# Altium footprint library PcbLib1.PcbLib: 53 footprints (part 2 of 4)
Each footprint in its own frame and in the unit in brackets; x right, y up, seen from the top. Pads: shape width x height; smd on the part's side, far side on the other; paste and mask are expansions set on the pad; w line width, h text height; cw(c..) or ccw(c..) is an arc to the next point about the centre after c.
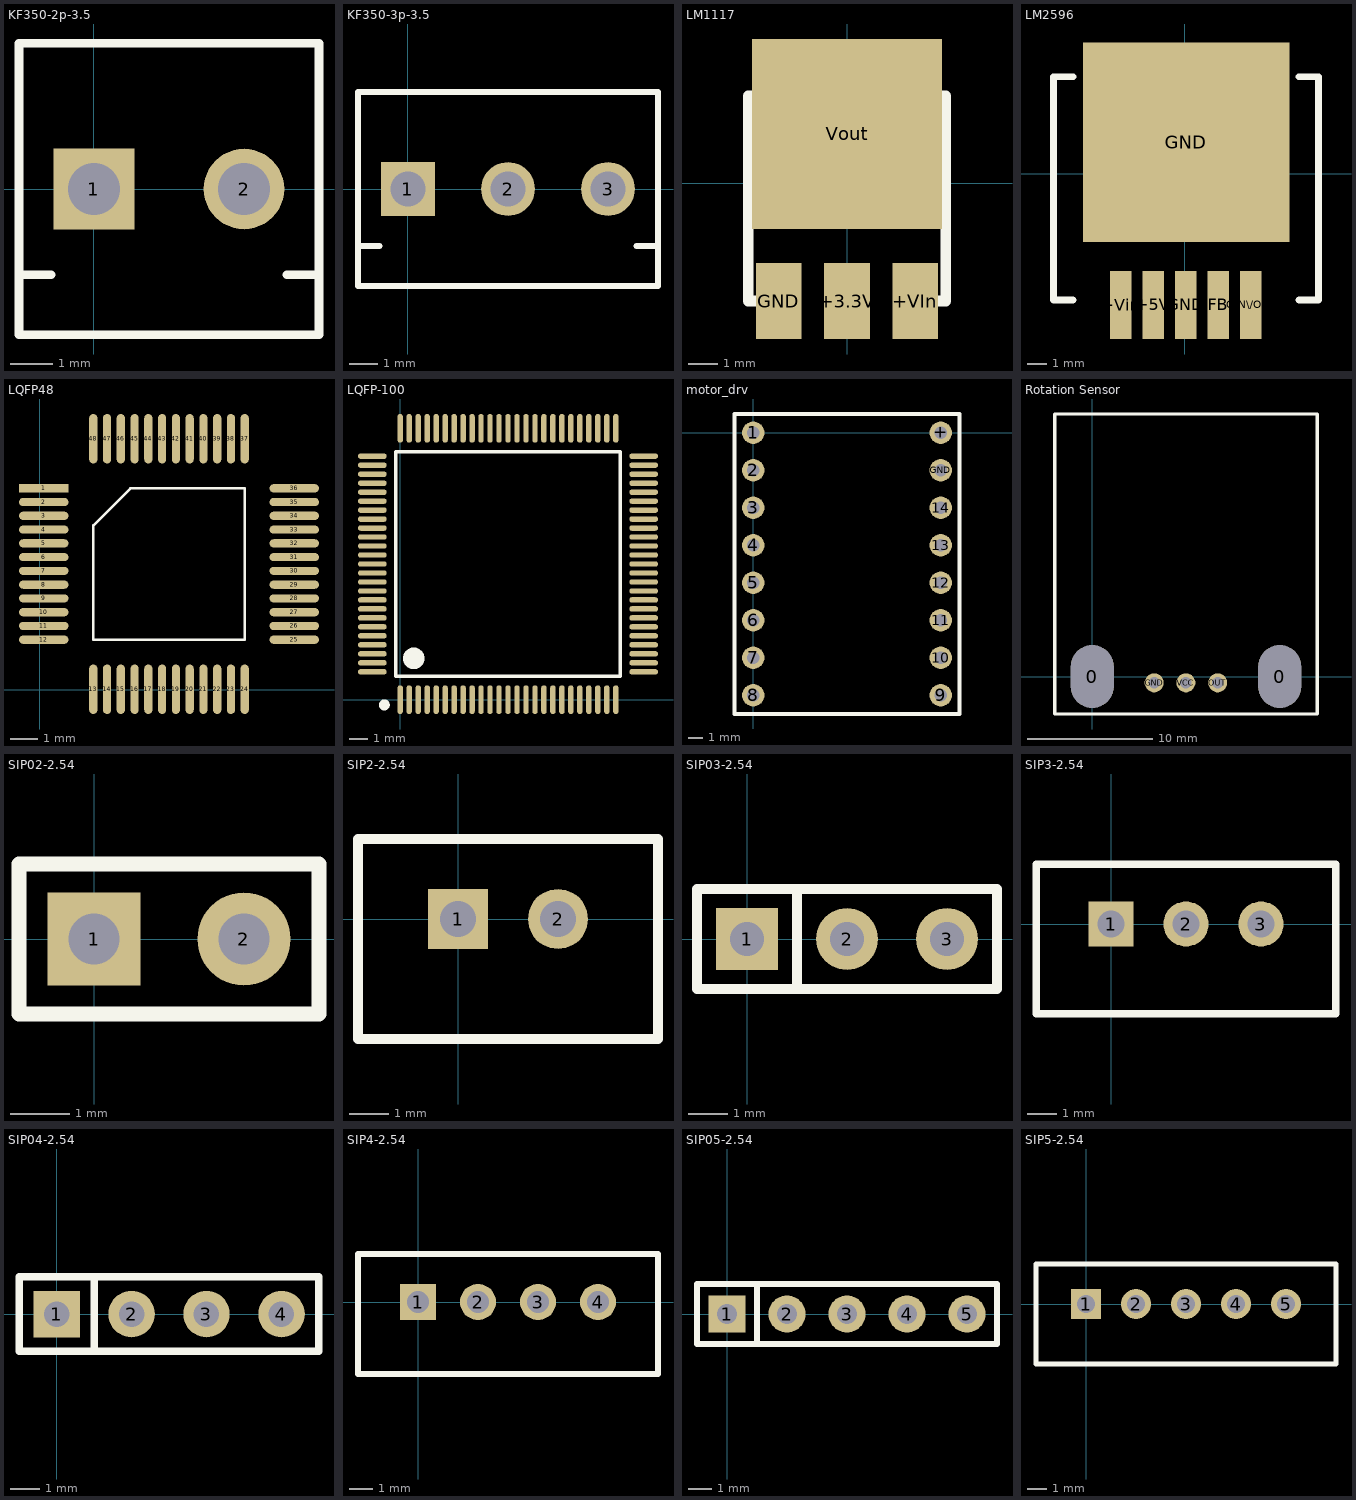
[diagram p1: the footprints below, top view; thin cyan lines are the x and y axes]

## KF350-2p-3.5 [mil]
pads (2):
  rect 74x74 hole 48: 1(0,0)
  round 74 hole 48: 2(137.8,0)
Top Overlay:
  lines w8: -68.9,-78.74 -39.37,-78.74 ; 177.17,-78.74 206.69,-78.74 ; -68.9,-133.86 -68.9,133.86 206.69,133.86 206.69,-133.86 -68.9,-133.86

## KF350-3p-3.5 [mil]
pads (3):
  rect 74x74 hole 48: 1(0,0)
  round 74 hole 48: 2(137.8,0) 3(275.59,0)
Top Overlay:
  lines w8: -68.9,-78.74 -39.37,-78.74 ; 314.96,-78.74 344.49,-78.74 ; -68.9,-133.86 -68.9,133.86 344.49,133.86 344.49,-133.86 -68.9,-133.86

## LM1117 [mil]
pads (4):
  rect 60x100 smd: +3.3V(0,-155) +VIn(90,-155) GND(-90,-155)
  rect 250x250 smd: Vout(0,65)
Top Overlay:
  lines w14: -120,-155 -130,-155 -130,115 -80,115 ; 80,115 130,115 130,-155 120,-155

## LM2596 [mil]
pads (6):
  rect 44x140 smd: +5V(-65,-270) +Vin(-132,-270) FB(69,-270) GND(2,-270) O\N\/OFF(136,-270)
  rect 425x410 smd: GND(3,65)
Top Overlay:
  lines w14: -230,-260 -270,-260 -270,200 -230,200 ; 235,-260 275,-260 275,200 235,200

## LQFP48 [mm]
pads (48):
  rect 1.8x0.3 smd: 1(0.149,7.322)
  oval 1.8x0.3 smd: 2(0.149,6.822) 3(0.149,6.322) 4(0.149,5.822) 5(0.149,5.322) 6(0.149,4.822) 7(0.149,4.322) 8(0.149,3.822) 9(0.149,3.322) 10(0.149,2.822) 11(0.149,2.322) 12(0.149,1.822) 25(9.249,1.822) 26(9.249,2.322) 27(9.249,2.822) 28(9.249,3.322) 29(9.249,3.822) 30(9.249,4.322) 31(9.249,4.822) 32(9.249,5.322) 33(9.249,5.822) 34(9.249,6.322) 35(9.249,6.822) 36(9.249,7.322)
  oval 0.3x1.8 smd: 13(1.949,0.022) 14(2.449,0.022) 15(2.949,0.022) 16(3.449,0.022) 17(3.949,0.022) 18(4.449,0.022) 19(4.949,0.022) 20(5.449,0.022) 21(5.949,0.022) 22(6.449,0.022) 23(6.949,0.022) 24(7.449,0.022) 37(7.449,9.122) 38(6.949,9.122) 39(6.449,9.122) 40(5.949,9.122) 41(5.449,9.122) 42(4.949,9.122) 43(4.449,9.122) 44(3.949,9.122) 45(3.449,9.122) 46(2.949,9.122) 47(2.449,9.122) 48(1.949,9.122)
Top Overlay:
  lines w0.1: 1.949,1.822 7.449,1.822 7.449,7.322 3.302,7.322 1.949,5.969 1.949,1.822

## LQFP-100 [mm]
pads (100):
  oval 0.3x1.6 smd paste+0 mask+0.051: 1(0.008,0) 2(0.508,0) 3(1.008,0) 4(1.508,0) 5(2.008,0) 6(2.508,0) 7(3.008,0) 8(3.508,0) 9(4.008,0) 10(4.508,0) 11(5.008,0) 12(5.509,0) 13(6.008,0) 14(6.509,0) 15(7.008,0) 16(7.509,0) 17(8.008,0) 18(8.509,0) 19(9.008,0) 20(9.509,0) 21(10.008,0) 22(10.509,0) 23(11.008,0) 24(11.509,0) 25(12.008,0) 51(12.008,15.1) 52(11.509,15.1) 53(11.008,15.1) 54(10.509,15.1) 55(10.008,15.1) 56(9.509,15.1) 57(9.008,15.1) 58(8.509,15.1) 59(8.008,15.1) 60(7.509,15.1) 61(7.008,15.1) 62(6.509,15.1) 63(6.008,15.1) 64(5.509,15.1) 65(5.008,15.1) 66(4.508,15.1) 67(4.008,15.1) 68(3.508,15.1) 69(3.008,15.1) 70(2.508,15.1) 71(2.008,15.1) 72(1.508,15.1) 73(1.008,15.1) 74(0.508,15.1) 75(0.008,15.1)
  oval 1.6x0.3 smd paste+0 mask+0.051: 26(13.558,1.55) 27(13.558,2.05) 28(13.558,2.55) 29(13.558,3.05) 30(13.558,3.55) 31(13.558,4.05) 32(13.558,4.55) 33(13.558,5.05) 34(13.558,5.55) 35(13.558,6.05) 36(13.558,6.55) 37(13.558,7.05) 38(13.558,7.55) 39(13.558,8.05) 40(13.558,8.55) 41(13.558,9.05) 42(13.558,9.55) 43(13.558,10.05) 44(13.558,10.55) 45(13.558,11.05) 46(13.558,11.55) 47(13.558,12.05) 48(13.558,12.55) 49(13.558,13.05) 50(13.558,13.55) 76(-1.541,13.55) 77(-1.541,13.05) 78(-1.541,12.55) 79(-1.541,12.05) 80(-1.541,11.55) 81(-1.541,11.05) 82(-1.541,10.55) 83(-1.541,10.05) 84(-1.541,9.55) 85(-1.541,9.05) 86(-1.541,8.55) 87(-1.541,8.05) 88(-1.541,7.55) 89(-1.541,7.05) 90(-1.541,6.55) 91(-1.541,6.05) 92(-1.541,5.55) 93(-1.541,5.05) 94(-1.541,4.55) 95(-1.541,4.05) 96(-1.541,3.55) 97(-1.541,3.05) 98(-1.541,2.55) 99(-1.541,2.05) 100(-1.541,1.55)
Top Overlay:
  lines w0.2: -0.242,1.3 -0.242,13.8 12.258,13.8 12.258,1.3 -0.242,1.3
  lines w0.3: -0.875,-0.146 ccw(c-0.874,-0.296) -0.872,-0.146
  lines w0.6: 0.758,2.6 ccw(c0.761,2.3) 0.763,2.6

## motor_drv [mil]
height 47.24
pads (16):
  round 60 hole 34: 1(0,0) 2(0,-100) 3(0,-200) 4(0,-300) 5(0,-400) 6(0,-500) 7(0,-600) 8(0,-700) 9(500,-700) 10(500,-600) 11(500,-500) 12(500,-400) 13(500,-300) 14(500,-200) +(500,0) GND(500,-100)
Top Overlay:
  lines w10: -50,-750 550,-750 550,50 -50,50 -50,-750

## Rotation Sensor [mil]
pads (5):
  oval 133.86x196.85 hole 133.86 slot 196.85 at 90 deg: 0(0,0) 0(590.55,0)
  round 60 hole 36: GND(195,-20) OUT(395,-20) VCC(295,-20)
Top Overlay:
  lines w10: -118.11,-118.11 708.66,-118.11 708.66,826.77 -118.11,826.77 -118.11,-118.11

## SIP02-2.54 [mil]
height 100
pads (2):
  rect 62x62 hole 34: 1(0,0)
  round 62 hole 34: 2(100,0)
Top Overlay:
  lines w10: -50,-50 -50,50 150,50 150,-50 -50,-50

## SIP2-2.54 [mil]
pads (2):
  rect 60x60 hole 36: 1(0,0)
  round 60 hole 36: 2(100,0)
Top Overlay:
  lines w10: -100,-120 -100,0 -100,80 200,80 200,-120 -100,-120

## SIP03-2.54 [mil]
height 100
pads (3):
  rect 62x62 hole 34: 1(0,0)
  round 62 hole 34: 2(100,0) 3(200,0)
Top Overlay:
  lines w10: 50,-50 50,50 ; -50,-50 250,-50 250,50 -50,50 -50,-50

## SIP3-2.54 [mil]
pads (3):
  rect 60x60 hole 36: 1(0,0)
  round 60 hole 36: 2(100,0) 3(200,0)
Top Overlay:
  lines w10: -100,-120 300,-120 300,80 -100,80 -100,0 -100,-120

## SIP04-2.54 [mil]
height 100
pads (4):
  rect 62x62 hole 34: 1(0,0)
  round 62 hole 34: 2(100,0) 3(200,0) 4(300,0)
Top Overlay:
  lines w10: 50,-50 50,50 ; -50,-50 350,-50 350,50 -50,50 -50,-50

## SIP4-2.54 [mil]
pads (4):
  rect 60x60 hole 36: 1(0,0)
  round 60 hole 36: 2(100,0) 3(200,0) 4(300,0)
Top Overlay:
  lines w10: -100,-120 400,-120 400,80 -100,80 -100,0 -100,-120

## SIP05-2.54 [mil]
height 100
pads (5):
  rect 62x62 hole 34: 1(0,0)
  round 62 hole 34: 2(100,0) 3(200,0) 4(300,0) 5(400,0)
Top Overlay:
  lines w10: 50,-50 50,50 ; -50,-50 450,-50 450,50 -50,50 -50,-50

## SIP5-2.54 [mil]
pads (5):
  rect 60x60 hole 36: 1(0,0)
  round 60 hole 36: 2(100,0) 3(200,0) 4(300,0) 5(400,0)
Top Overlay:
  lines w10: -100,-120 500,-120 500,80 -100,80 -100,0 -100,-120